# EAGLE library part TPS7150QDR (library TPS7150QDR)
LDO Voltage Regulators Lowest Dropout PMOS Source: Datasheet <https://www.ti.com/lit/gpn/TPS71>
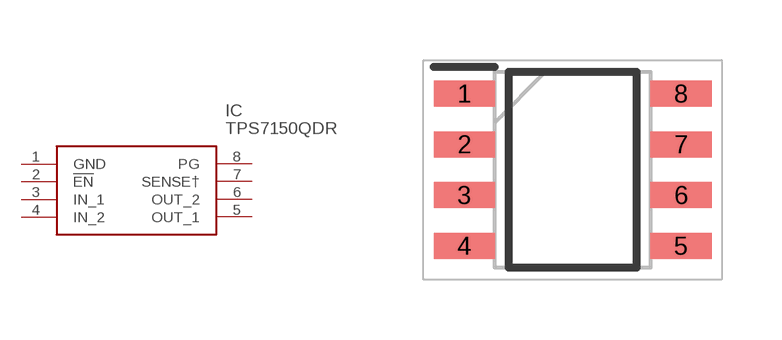
[diagram p0: symbol with the pads of SOIC127P600X175-8N; footprint SOIC127P600X175-8N]

Designator prefix IC

## TPS7150QDR (Description: LDO Voltage Regulators Lowest Dropout PMOS; Height: 1.75mm; Manufacturer_Name: Texas Instruments; Manufacturer_Part_Number: TPS7150QDR; Mouser_Part_Number: 595-TPS7150QDR; Mouser_Price-Stock: https://www.mouser.co.uk/ProductDetail/Texas-Instruments/TPS7150QDR?qs=Gse6rAGbi79xIQtuYfAffQ%3D%3D)  [SOIC127P600X175-8N]
1  GND
2  !EN
3  IN_1
4  IN_2
5  OUT_1
6  OUT_2
7  SENSE†
8  PG

## Footprint SOIC127P600X175-8N (pad centres in mm)
D0008A
smd 1.528 x 0.65: 1 -2.711,1.905; 2 -2.711,0.635; 3 -2.711,-0.635; 4 -2.711,-1.905; 5 2.711,-1.905; 6 2.711,-0.635; 7 2.711,0.635; 8 2.711,1.905